# EAGLE library part CP2112-F03-GMR (library SamacSys_Parts)
USB Interface IC HID USB to SMBUS Bridge QFN24 Source: Datasheet
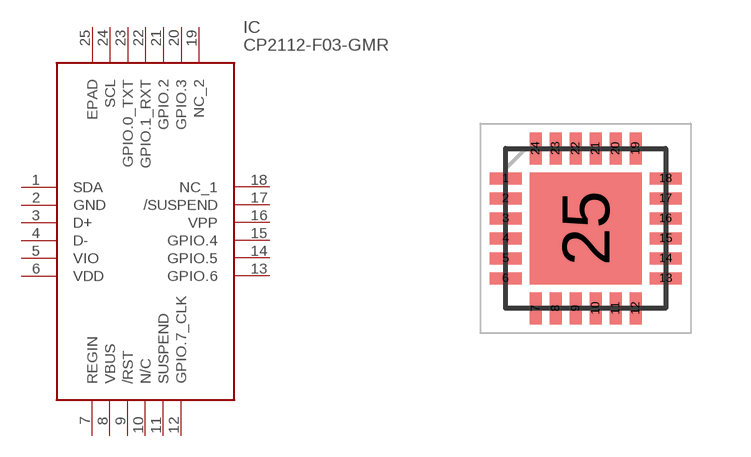
[diagram p10: symbol with the pads of QFN50P400X400X80-25N; footprint QFN50P400X400X80-25N]

Designator prefix IC

## CP2112-F03-GMR (DESCRIPTION: USB Interface IC HID USB to SMBUS Bridge QFN24; HEIGHT: 0.8mm; MANUFACTURER_NAME: Silicon Labs; MANUFACTURER_PART_NUMBER: CP2112-F03-GMR; MOUSER_PART_NUMBER: 634-CP2112-F03-GMR; MOUSER_PRICE-STOCK: https://www.mouser.co.uk/ProductDetail/Silicon-Labs/CP2112-F03-GMR/?qs=5aG0NVq1C4xTtcRh7H2oKQ%3D%3D)  [QFN50P400X400X80-25N]
1  SDA
2  GND
3  D+
4  D-
5  VIO
6  VDD
7  REGIN
8  VBUS
9  /RST
10  N/C  nc
11  SUSPEND
12  GPIO.7_CLK
13  GPIO.6
14  GPIO.5
15  GPIO.4
16  VPP
17  /SUSPEND
18  NC_1
19  NC_2
20  GPIO.3
21  GPIO.2
22  GPIO.1_RXT
23  GPIO.0_TXT
24  SCL
25  EPAD

## Footprint QFN50P400X400X80-25N (pad centres in mm)
24-Pin QFN-2
smd 0.8 x 0.3: 1 -2,1.25; 2 -2,0.75; 3 -2,0.25; 4 -2,-0.25; 5 -2,-0.75; 6 -2,-1.25; 13 2,-1.25; 14 2,-0.75; 15 2,-0.25; 16 2,0.25; 17 2,0.75; 18 2,1.25
smd 0.3 x 0.8: 7 -1.25,-2; 8 -0.75,-2; 9 -0.25,-2; 10 0.25,-2; 11 0.75,-2; 12 1.25,-2; 19 1.25,2; 20 0.75,2; 21 0.25,2; 22 -0.25,2; 23 -0.75,2; 24 -1.25,2
smd 2.8 x 2.8: 25 0,0